# EAGLE library part DAC8812 (library faout)
DAC
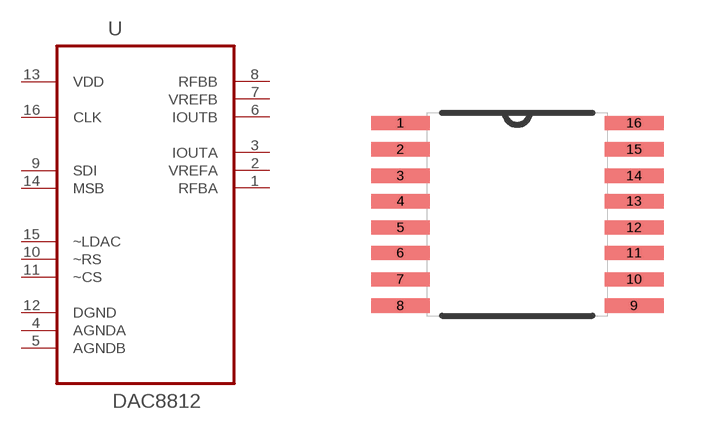
[diagram p12: symbol with the pads of SOP65P640X120-16N; footprint SOP65P640X120-16N]

Designator prefix U

## DAC8812 (MPN: DAC8812; OC_FARNELL: 1390687; PACKAGE: TSSOP-16; SUPPLIER: Texas Instruments)  [SOP65P640X120-16N]
1  RFBA  in
2  VREFA  in
3  IOUTA  out
4  AGNDA  pas
5  AGNDB  pas
6  IOUTB  out
7  VREFB  in
8  RFBB  in
9  SDI  in
10  ~RS  in
11  ~CS  in
12  DGND  pas
13  VDD  pwr
14  MSB  in
15  ~LDAC  in
16  CLK  in

## Footprint SOP65P640X120-16N (pad centres in mm)
smd 1.473 x 0.356: 1 -2.921,2.286; 2 -2.921,1.626; 3 -2.921,0.965; 4 -2.921,0.33; 5 -2.921,-0.33; 6 -2.921,-0.965; 7 -2.921,-1.626; 8 -2.921,-2.286; 9 2.921,-2.286; 10 2.921,-1.626; 11 2.921,-0.965; 12 2.921,-0.33; 13 2.921,0.33; 14 2.921,0.965; 15 2.921,1.626; 16 2.921,2.286